# Altium schematic symbol library Capacitors.SchLib: 4 symbols
Pins are listed as number, name and electrical type; pins without a type are passive.

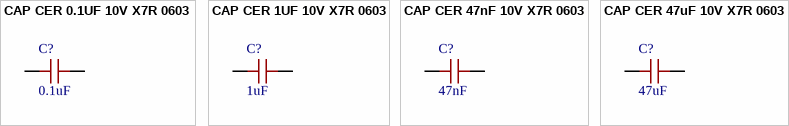
[diagram p0: symbols CAP CER 0.1UF 10V X7R 0603 to CAP CER 47uF 10V X7R 0603]

## CAP CER 0.1UF 10V X7R 0603
designator C?  value 0.1uF  (hidden comment: CAP CER 0.1UF 10V X7R 0603)
0.1uF, 10% 0603
footprint 0603 CAP
pins: 1, 2

## CAP CER 1UF 10V X7R 0603
designator C?  value 1uF  (hidden comment: CAP CER 1UF 10V X7R 0603)
1uF, 10% 0603
footprint 0603 CAP
pins: 1, 2

## CAP CER 47nF 10V X7R 0603
designator C?, comment value 47nF  (hidden comment: CAP CER 1UF 10V X7R 0603)
47nF, 10% 0603
footprint 0603 CAP
pins: 1, 2

## CAP CER 47uF 10V X7R 0603
designator C?  value 47uF  (hidden comment: CAP CER 47uF 10V X7R 0603)
47uF, 10% 0603
pins: 1, 2